# EAGLE library part LINE_6 (library Pod3 Lib)
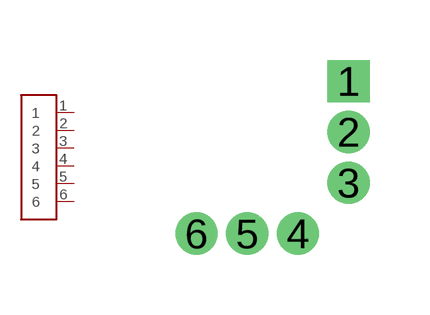
[diagram p5: symbol with the pads of LINE_6; footprint LINE_6]

Designator prefix -

## LINE_6  [LINE_6]
1  1
2  2
3  3
4  4
5  5
6  6

## Footprint LINE_6 (pad centres in mm)
drill 0.55 square: 1 0,3.81
drill 0.55: 2 0,2.54; 3 0,1.27; 4 -1.27,0; 5 -2.54,0; 6 -3.81,0